# EAGLE library part LM3478 (library Skoba)
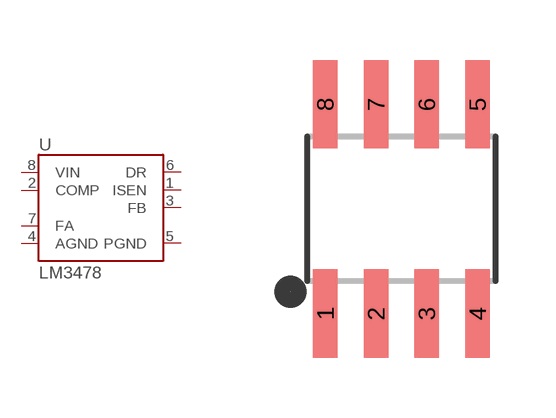
[diagram p20: symbol with the pads of SO08; footprint SO08]

Designator prefix U

## LM3478  [SO08]
1  ISEN
2  COMP
3  FB
4  AGND
5  PGND
6  DR
7  FA
8  VIN

## Footprint SO08 (pad centres in mm)
Small Outline Package Fits JEDEC packages (narrow SOIC-8)
smd 0.61 x 2.21: 1 -1.905,-2.616; 2 -0.635,-2.616; 3 0.635,-2.616; 4 1.905,-2.616; 5 1.905,2.616; 6 0.635,2.616; 7 -0.635,2.616; 8 -1.905,2.616